# Altium integrated library Linear Technology PMIC-Switching Reg LTC1174-LTC3901.IntLib: 2647 symbols (part 143 of 310)
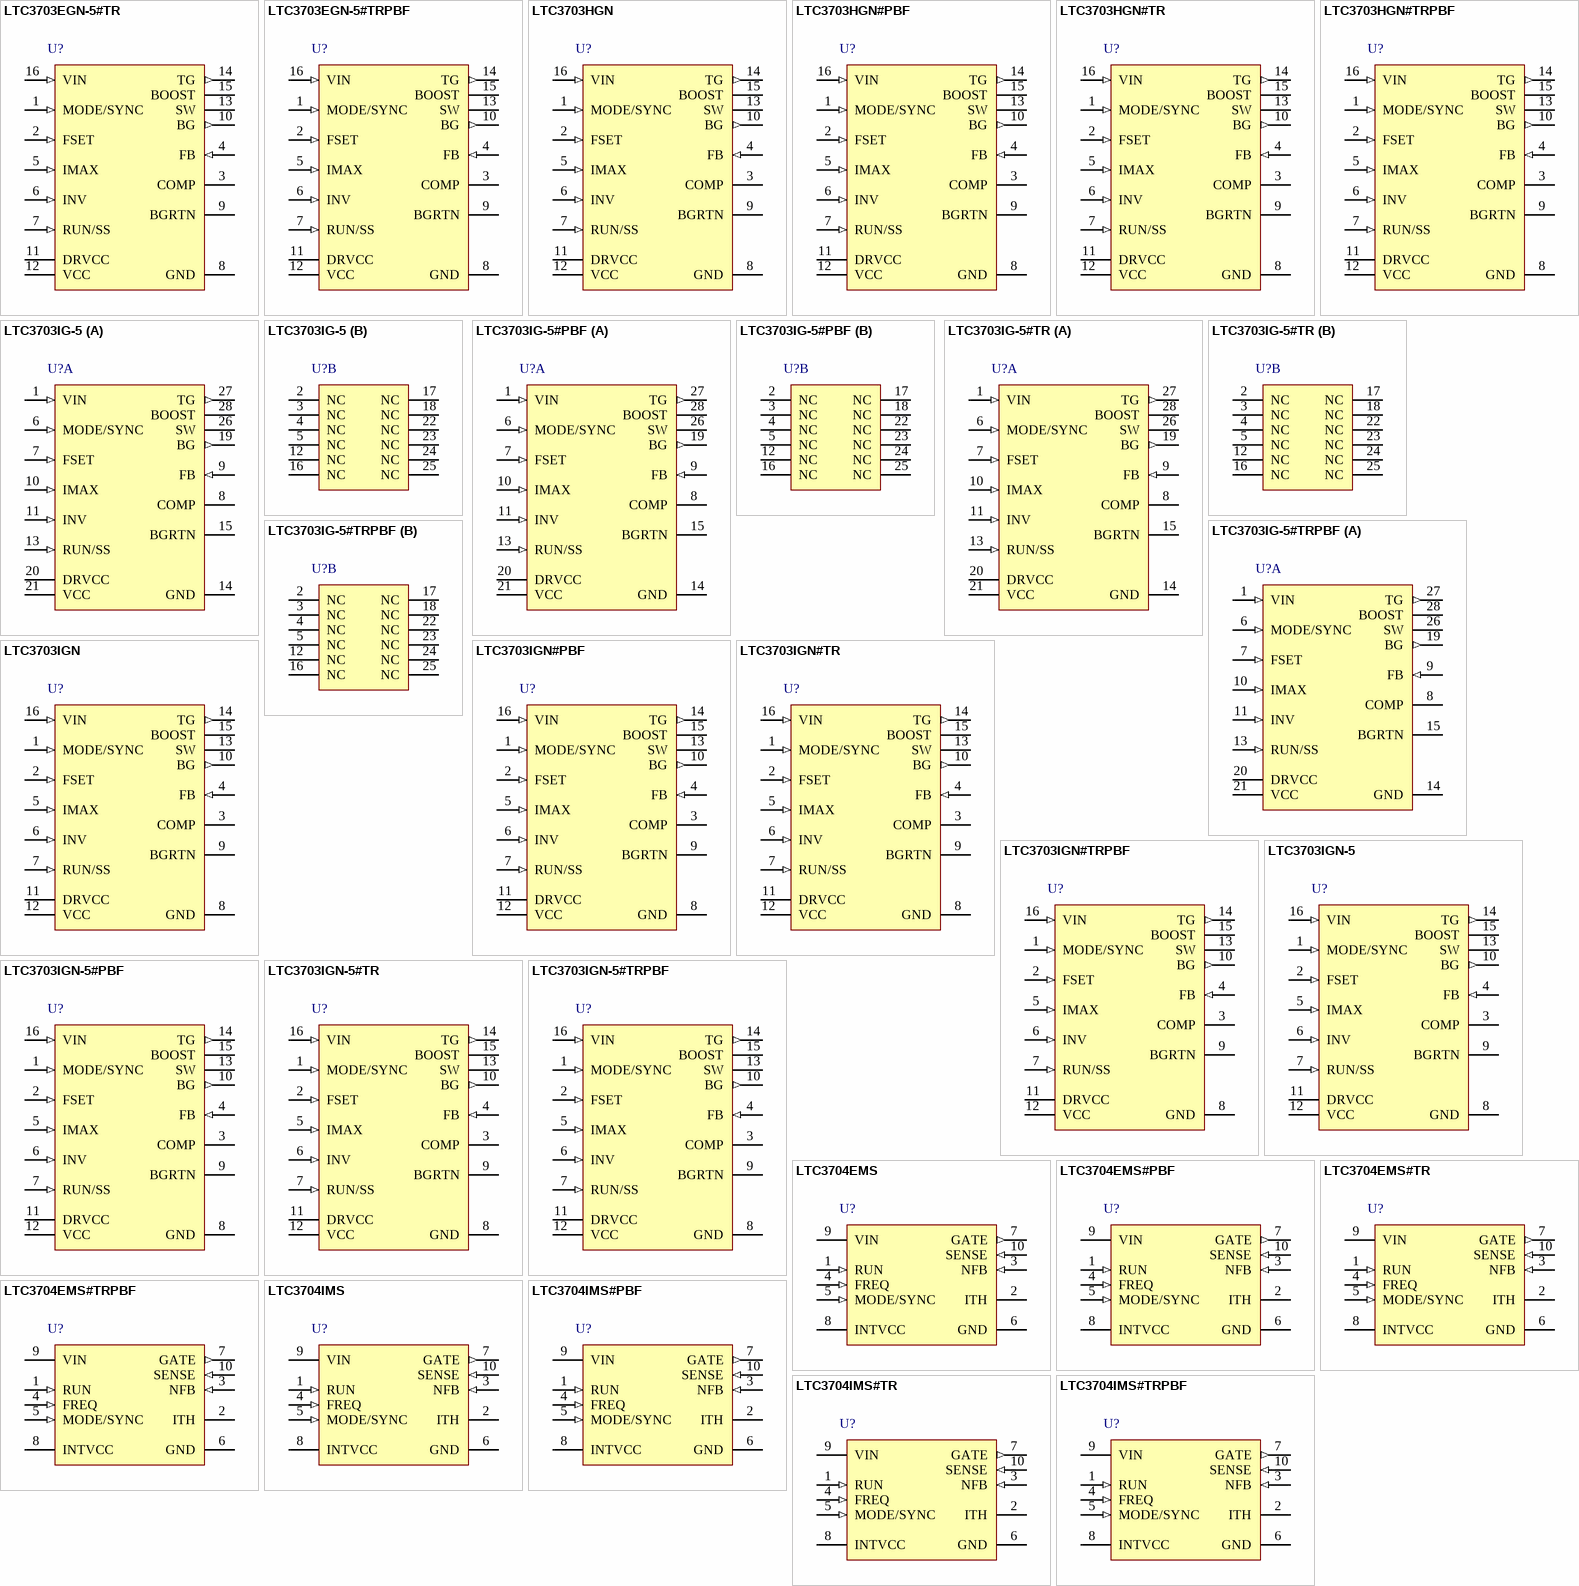
[diagram p296: symbols LTC3703EGN-5#TR to LTC3704IMS#TRPBF]

## LTC3703IG-5#PBF
designator U?
Synchronous Switching Regulator Controller, 28-pin SOP (G-28), -40 to 125 degC, Pb-Free; Manufacturer: Linear Technology; PartNumber: LTC3703IG-5#PBF; Number of Outputs: 1; PackageReference: G-28; PackageDescription: 28-Pin Plastic SSOP, Body 10.2 x 5.3 mm, Pitch 0.65 mm; Supplier 1: Digi-Key; Supplier Part Number 1: LTC3703IG-5#PBF-ND; RoHS: TRUE
footprint LT-G-28_N (SOP, 28-Leads, Body 10.2x5.3mm, Pitch 0.65mm, IPC Medium Density)
footprint LT-G-28_L (SOP, 28-Leads, Body 10.2x5.3mm, Pitch 0.65mm, IPC High Density)
footprint LT-G-28_M (SOP, 28-Leads, Body 10.2x5.3mm, Pitch 0.65mm, IPC Low Density)
part A pins: 1 VIN (in) "Input Voltage Sense Pin. This pin is connected to the high voltage input of the regulator and is used by the internal feedforward compensation circuitry to improve line regulation. This is not a supply pin.", 6 MODE/SYNC (in) "Pulse Skip Mode Enable/Sync Pin. This multifunction pin provides Pulse Skip Mode enable/ disable control and an external clock input for synchronization of the internal oscillator. Pulling this pin below 0.8V or to an (See Datasheet)", 7 FSET (in) "Frequency Set. A resistor connected to this pin sets the free running frequency of the internal oscillator.", 8 COMP "Loop Compensation. This pin is connected directly to the output of the internal error amplifier. An RC network is used at the COMP pin to compensate the feedback loop for optimal transient response.", 9 FB (in) "Feedback Input. Connect FB through a resistor divider network to VOUT to set the output voltage. Also connect the loop compensation network from COMP to FB.", 10 IMAX (in) "Current Limit Set. The IMAX pin sets the current limit comparator threshold. If the voltage drop across the bottom MOSFET exceeds the magnitude of the voltage at IMAX, the controller goes into current limit. The IMAX pin has (See Datasheet)", 11 INV (in) "Top/Bottom Gate Invert. Pulling this pin above 2V sets the controller to operate in step-up (boost) mode with the TG output driving the synchronous MOSFET and the BG output driving the main switch. Below 1V, the controller (See Datasheet)", 13 RUN/SS (in) "Run/Soft-Start.", 14 GND (power) "Ground Pin.", 15 BGRTN "Bottom Gate Return. This pin connects to the source of the pull-down MOSFET in the BG driver and is normally connected to ground. Connecting a negative supply to this pin allows the synchronous MOSFET’s gate to be pulle(See Datasheet)", 19 BG (out) "Bottom Gate Drive. The BG pin drives the gate of the bottom N-channel synchronous switch MOSFET. This pin swings from BGRTN to DRVCC.", 20 DRVCC (power) "Driver Power Supply Pin. DRVCC provides power to the BG output driver. This pin should be connected to a voltage high enough to fully turn on the external MOSFETs, normally 4.5V to 15V for logic level threshold MOSFETs. (See Datasheet)", 21 VCC (power) "Main Supply Pin. All internal circuits except the output drivers are powered from this pin.", 26 SW "Switch Node Connection to Inductor and Bootstrap Capacitor. Voltage swing at this pin is from a Schottky diode (external) voltage drop below ground to VIN.", 27 TG (out) "Top Gate Drive. The TG pin drives the gate of the top N-channel synchronous switch MOSFET. The TG driver draws power from the BOOST pin and returns to the SW pin, providing true floating drive to the top MOSFET.", 28 BOOST "Top Gate Driver Supply. The BOOST pin supplies power to the floating TG driver. The BOOST pin should be bypassed to SW with a low ESR (X5R or better) 0.1uF ceramic capacitor. An additional fast recovery Schottky diode from (See Datasheet)"
part B pins: 2 NC, 3 NC, 4 NC, 5 NC, 12 NC, 16 NC, 17 NC, 18 NC, 22 NC, 23 NC, 24 NC, 25 NC